# EAGLE library part BELA_CAPELET_MODULAR (library bela_capelet - Rebel Modified)
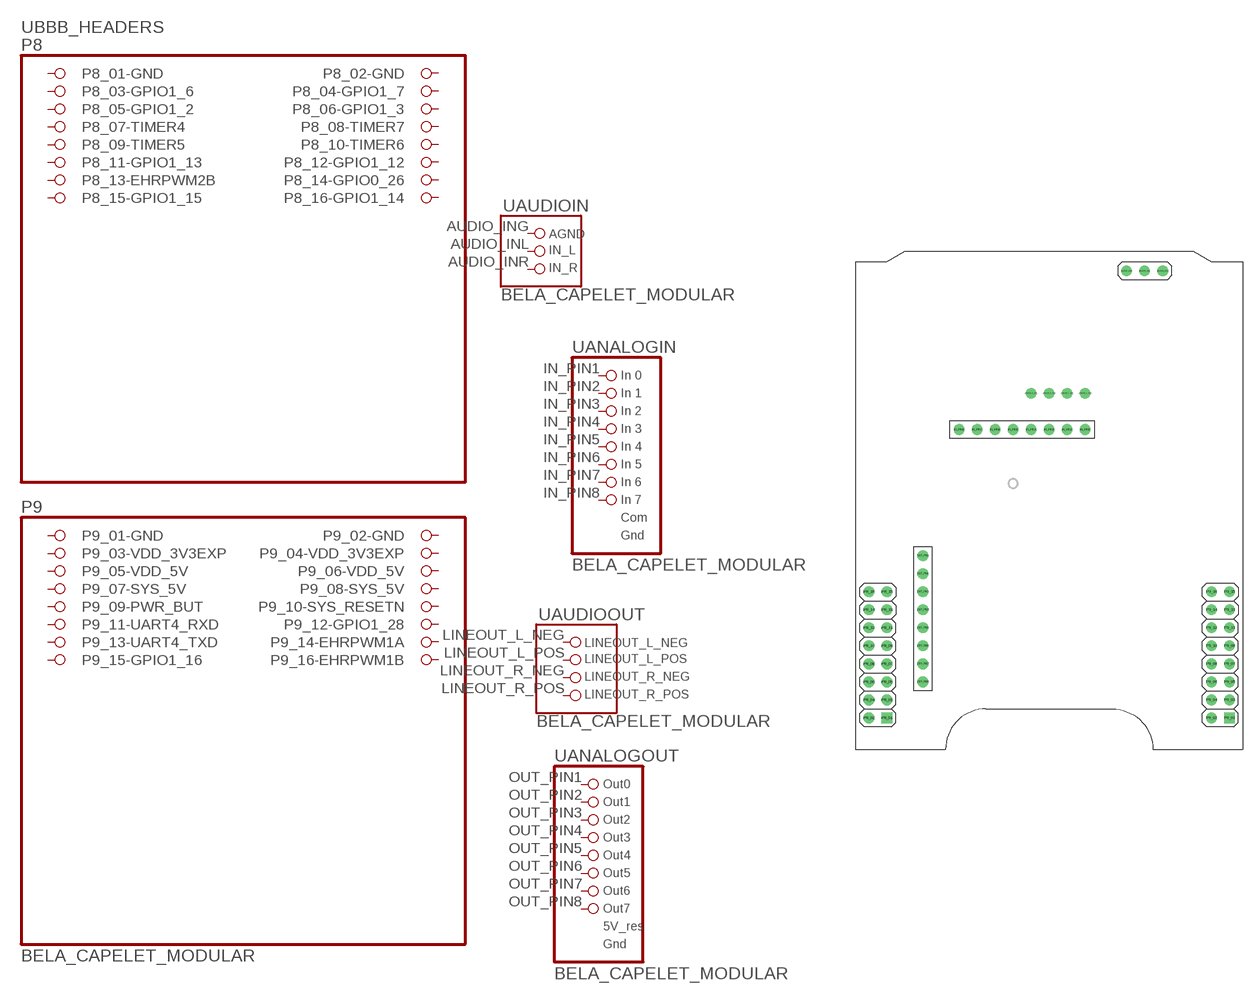
[diagram p2: symbol with the pads of BELA_CAPELET_MODULAR; footprint BELA_CAPELET_MODULAR]

Designator prefix -; gates AUDIOIN=BELA_AUDIOIN BBB_HEADERS=BEAGLEBONE-SHORTER ANALOGIN=BELA_ANALOGIN ANALOGOUT=BELA_ANALOGOUT AUDIOOUT=BELA_LINEOUT

## BELA_CAPELET_MODULAR  [BELA_CAPELET_MODULAR]
AUDIO_ING  AUDIOIN:1  pas
AUDIO_INL  AUDIOIN:2  pas
AUDIO_INR  AUDIOIN:3  pas
IN_PIN1  ANALOGIN:1  pas
IN_PIN2  ANALOGIN:2  pas
IN_PIN3  ANALOGIN:3  pas
IN_PIN4  ANALOGIN:4  pas
IN_PIN5  ANALOGIN:5  pas
IN_PIN6  ANALOGIN:6  pas
IN_PIN7  ANALOGIN:7  pas
IN_PIN8  ANALOGIN:8  pas
LINEOUT_L_NEG  AUDIOOUT:1  pas
LINEOUT_L_POS  AUDIOOUT:2  pas
LINEOUT_R_NEG  AUDIOOUT:3  pas
LINEOUT_R_POS  AUDIOOUT:4  pas
OUT_PIN1  ANALOGOUT:1  pas
OUT_PIN2  ANALOGOUT:2  pas
OUT_PIN3  ANALOGOUT:3  pas
OUT_PIN4  ANALOGOUT:4  pas
OUT_PIN5  ANALOGOUT:5  pas
OUT_PIN6  ANALOGOUT:6  pas
OUT_PIN7  ANALOGOUT:7  pas
OUT_PIN8  ANALOGOUT:8  pas
P8_01  BBB_HEADERS:P8_01-GND  pwr
P8_02  BBB_HEADERS:P8_02-GND  pwr
P8_03  BBB_HEADERS:P8_03-GPIO1_6  pas
P8_04  BBB_HEADERS:P8_04-GPIO1_7  pas
P8_05  BBB_HEADERS:P8_05-GPIO1_2  pas
P8_06  BBB_HEADERS:P8_06-GPIO1_3  pas
P8_07  BBB_HEADERS:P8_07-TIMER4  pas
P8_08  BBB_HEADERS:P8_08-TIMER7  pas
P8_09  BBB_HEADERS:P8_09-TIMER5  pas
P8_10  BBB_HEADERS:P8_10-TIMER6  pas
P8_11  BBB_HEADERS:P8_11-GPIO1_13  pas
P8_12  BBB_HEADERS:P8_12-GPIO1_12  pas
P8_13  BBB_HEADERS:P8_13-EHRPWM2B  pas
P8_14  BBB_HEADERS:P8_14-GPIO0_26  pas
P8_15  BBB_HEADERS:P8_15-GPIO1_15  pas
P8_16  BBB_HEADERS:P8_16-GPIO1_14  pas
P9_01  BBB_HEADERS:P9_01-GND  pwr
P9_02  BBB_HEADERS:P9_02-GND  pwr
P9_03  BBB_HEADERS:P9_03-VDD_3V3EXP  pwr
P9_04  BBB_HEADERS:P9_04-VDD_3V3EXP  pwr
P9_05  BBB_HEADERS:P9_05-VDD_5V  pwr
P9_06  BBB_HEADERS:P9_06-VDD_5V  pwr
P9_07  BBB_HEADERS:P9_07-SYS_5V  pwr
P9_08  BBB_HEADERS:P9_08-SYS_5V  pas
P9_09  BBB_HEADERS:P9_09-PWR_BUT  pas
P9_10  BBB_HEADERS:P9_10-SYS_RESETN  pas
P9_11  BBB_HEADERS:P9_11-UART4_RXD  pas
P9_12  BBB_HEADERS:P9_12-GPIO1_28  pas
P9_13  BBB_HEADERS:P9_13-UART4_TXD  pas
P9_14  BBB_HEADERS:P9_14-EHRPWM1A  pas
P9_15  BBB_HEADERS:P9_15-GPIO1_16  pas
P9_16  BBB_HEADERS:P9_16-EHRPWM1B  pas

## Footprint BELA_CAPELET_MODULAR (pad centres in mm)
drill 1: AUDIO_ING 16.002,31.242; AUDIO_INL 13.462,31.242; AUDIO_INR 10.922,31.242; IN_PIN1 5.08,8.89; IN_PIN2 2.54,8.89; IN_PIN3 0,8.89; IN_PIN4 -2.54,8.89; IN_PIN5 -5.08,8.89; IN_PIN6 -7.62,8.89; IN_PIN7 -10.16,8.89; IN_PIN8 -12.7,8.89; LINEOUT_L_NEG 2.54,13.97; LINEOUT_L_POS 5.08,13.97; LINEOUT_R_NEG -2.54,13.97; LINEOUT_R_POS 0,13.97; OUT_PIN1 -17.78,-8.89; OUT_PIN2 -17.78,-11.43; OUT_PIN3 -17.78,-13.97; OUT_PIN4 -17.78,-16.51; OUT_PIN5 -17.78,-19.05; OUT_PIN6 -17.78,-21.59; OUT_PIN7 -17.78,-24.13; OUT_PIN8 -17.78,-26.67; P8_02 -25.4,-31.75; P8_03 -22.86,-29.21; P8_04 -25.4,-29.21; P8_05 -22.86,-26.67; P8_06 -25.4,-26.67; P8_07 -22.86,-24.13; P8_08 -25.4,-24.13; P8_09 -22.86,-21.59; P8_10 -25.4,-21.59; P8_11 -22.86,-19.05; P8_12 -25.4,-19.05; P8_13 -22.86,-16.51; P8_14 -25.4,-16.51; P8_15 -22.86,-13.97; P8_16 -25.4,-13.97; P9_02 22.86,-31.75; P9_03 25.4,-29.21; P9_04 22.86,-29.21; P9_05 25.4,-26.67; P9_06 22.86,-26.67; P9_07 25.4,-24.13; P9_08 22.86,-24.13; P9_09 25.4,-21.59; P9_10 22.86,-21.59; P9_11 25.4,-19.05; P9_12 22.86,-19.05; P9_13 25.4,-16.51; P9_14 22.86,-16.51; P9_15 25.4,-13.97; P9_16 22.86,-13.97
drill 1 square: P8_01 -22.86,-31.75; P9_01 25.4,-31.75